# EAGLE library part NE556? (library ic-logic)
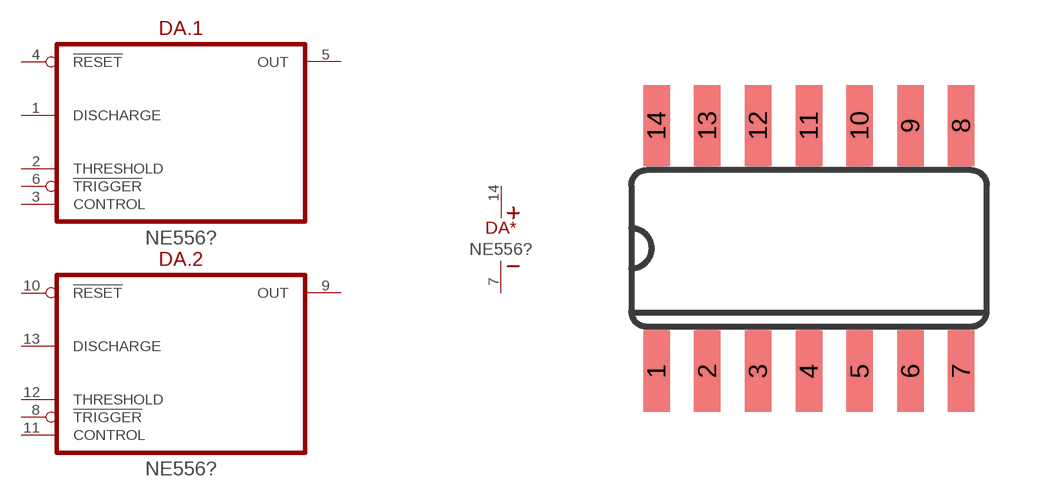
[diagram p4: symbol with the pads of SO-14; footprint SO-14]

Designator prefix DA; gates .1=555 .2=555 *=SUPPLY

## NE556DR (MOUSER: 595-NE556DR)  [SO-14]
1  .1:DISCHARGE
2  .1:THRESHOLD
3  .1:CONTROL
4  .1:!RESET  in
5  .1:OUT
6  .1:!TRIGGER
7  *:V-  pwr
8  .2:!TRIGGER
9  .2:OUT
10  .2:!RESET  in
11  .2:CONTROL
12  .2:THRESHOLD
13  .2:DISCHARGE
14  *:V+  pwr

## Footprint SO-14 (pad centres in mm)
Small Outline package 150 mil
smd 0.66 x 2.032: 1 -3.81,-3.073; 2 -2.54,-3.073; 3 -1.27,-3.073; 4 0,-3.073; 5 1.27,-3.073; 6 2.54,-3.073; 7 3.81,-3.073; 8 3.81,3.073; 9 2.54,3.073; 10 1.27,3.073; 11 0,3.073; 12 -1.27,3.073; 13 -2.54,3.073; 14 -3.81,3.073